# EAGLE library part IC_SOT_363 (library solderlessPCB v164)
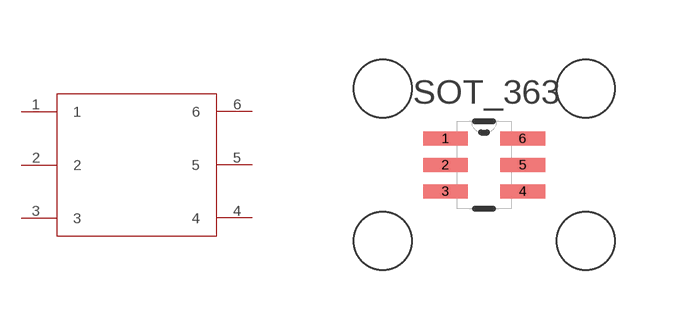
[diagram p10: symbol with the pads of SOT_363; footprint SOT_363]

Designator prefix -

## IC_SOT_363  [SOT_363]
1  1
2  2
3  3
4  4
5  5
6  6

## Footprint SOT_363 (pad centres in mm)
smd 1.118 x 0.356: 1 -0.965,0.66; 2 -0.965,0; 3 -0.965,-0.66; 4 0.965,-0.66; 5 0.965,0; 6 0.965,0.66
hole 1.45 at -2.54,1.905
hole 1.45 at -2.54,-1.905
hole 1.45 at 2.54,-1.905
hole 1.45 at 2.54,1.905